# Altium schematic symbol library TL3301DF160QJ.SchLib: 1 symbol
Pins are listed as number, name and electrical type; pins without a type are passive.

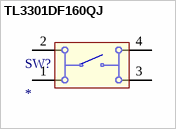
[diagram p0: symbol TL3301DF160QJ]

## TL3301DF160QJ
designator SW?
SWITCH TACTILE SPST-NO 0.05A 12V / Manufacturer PN: TL3301DF160QJ
footprint TL3301DF160QJ
pins: 1, 2, 3, 4